# EAGLE library part USB_2PORT (library PP_Connectors)
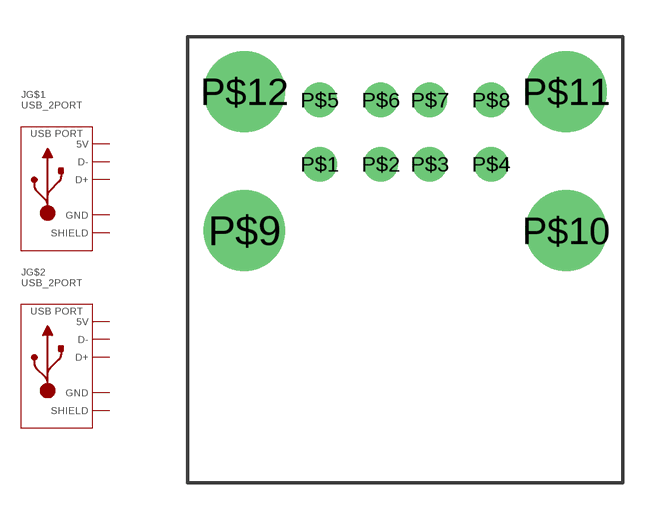
[diagram p30: symbol with the pads of UJ2-ADH-1-TH; footprint UJ2-ADH-1-TH]

Designator prefix J; gates G$1=USB_4PIN G$2=USB_4PIN

## USB_2PORT  [UJ2-ADH-1-TH]
P$1  G$1:5V
P$2  G$1:D-
P$3  G$1:D+
P$4  G$1:GND
P$5  G$2:5V
P$6  G$2:D-
P$7  G$2:D+
P$8  G$2:GND
P$9  G$2:SLD  pwr
P$10  G$1:SLD  pwr
P$11  G$1:SLD  pwr
P$12  G$2:SLD  pwr

## Footprint UJ2-ADH-1-TH (pad centres in mm)
drill 0.9: P$1 -3.5,13.01; P$2 -1,13.01; P$3 1,13.01; P$4 3.5,13.01; P$5 -3.5,15.63; P$6 -1,15.63; P$7 1,15.63; P$8 3.5,15.63
drill 2.3: P$9 -6.57,10.3; P$10 6.57,10.3; P$11 6.57,15.98; P$12 -6.57,15.98